# Altium schematic symbol library SCH - LOGIC - ON SEMI NC7SZ14P5X.SchLib: 1 symbol
Pins are listed as number, name and electrical type; pins without a type are passive.

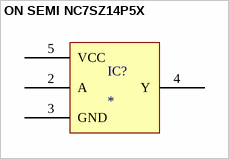
[diagram p0: symbol ON SEMI NC7SZ14P5X]

## ON SEMI NC7SZ14P5X
designator IC?
pins: 2 A, 3 GND, 4 Y, 5 VCC